# Altium integrated library LM74700QDBVRQ1.IntLib: 1 symbol
Pins are listed as number, name and electrical type; pins without a type are passive.

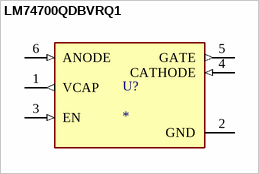
[diagram p0: symbol LM74700QDBVRQ1]

## LM74700QDBVRQ1
designator U?
3.2-V to 65-V, 80-uA IQ automotive ideal diode controller; MF: Texas Instruments; MP: LM74700QDBVRQ1; SnapEDA_Link: https://www.snapeda.com/parts/LM74700QDBVRQ1/Texas+Instruments/view-part/?ref=snap; Package: SOT-23-6 Texas Instruments; Value: *; Check_prices: https://www.snapeda.com/parts/LM74700QDBVRQ1/Texas+Instruments/view-part/?ref=eda
footprint SOT95P280X145-6N
pins: 1 VCAP (out), 2 GND (power), 3 EN (in), 4 CATHODE (in), 5 GATE (out), 6 ANODE (in)